# Altium footprint library VQFN_RGV.PcbLib: 1 footprints
Each footprint in its own frame and in the unit in brackets; x right, y up, seen from the top. Pads: shape width x height; smd on the part's side, far side on the other; paste and mask are expansions set on the pad; w line width, h text height; cw(c..) or ccw(c..) is an arc to the next point about the centre after c.
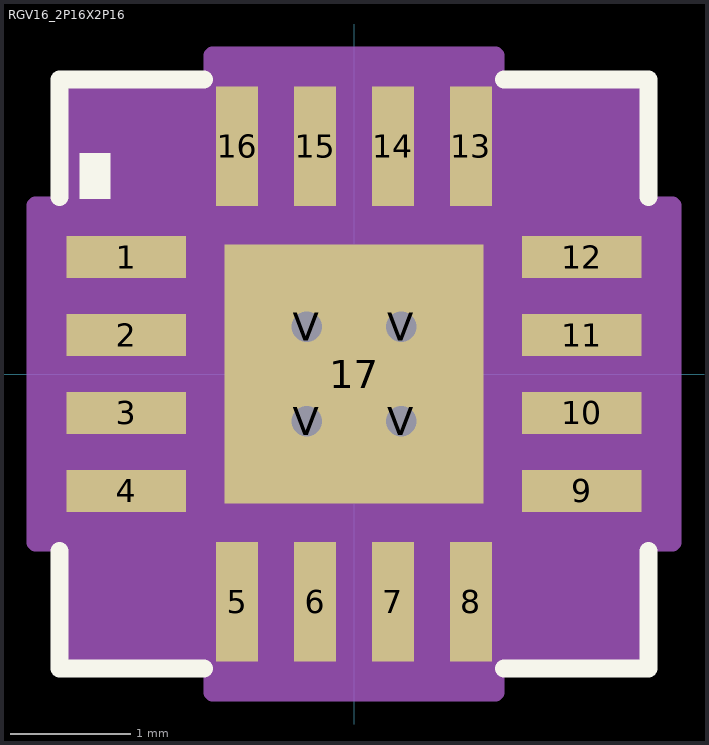
[diagram p0: the footprint, top view; thin cyan lines are the x and y axes]

## RGV16_2P16X2P16 [mm]
pads (21):
  rect 1x0.35 smd paste-0.175 mask+0: 1(-1.9,0.975) 2(-1.9,0.325) 3(-1.9,-0.325) 4(-1.9,-0.975) 9(1.9,-0.975) 10(1.9,-0.325) 11(1.9,0.325) 12(1.9,0.975)
  rect 0.35x1 smd paste-0.175 mask+0: 5(-0.975,-1.9) 6(-0.325,-1.9) 7(0.325,-1.9) 8(0.975,-1.9) 13(0.975,1.9) 14(0.325,1.9) 15(-0.325,1.9) 16(-0.975,1.9)
  rect 2.16x2.16 smd paste-1.067 mask-1.067: 17(0,0)
  round 0.508 hole 0.254: V(-0.394,-0.394) V(-0.394,0.394) V(0.394,-0.394) V(0.394,0.394)
Top Overlay:
  region: -2.286,1.841 -2.032,1.841 -2.032,1.46 -2.286,1.46
  lines w0.152: -2.456,-1.478 -2.456,-2.456 -1.253,-2.456 ; -2.456,1.478 -2.456,2.456 -1.253,2.456 ; 1.253,-2.456 2.456,-2.456 2.456,-1.478 ; 1.253,2.456 2.456,2.456 2.456,1.478
Top Paste:
  drawing of 26 lines, arcs and shapes, not listed
Top Solder:
  region: -1.33,1.22 -2.47,1.22 -2.47,0.73 -1.33,0.73
  region: -1.33,0.57 -2.47,0.57 -2.47,0.08 -1.33,0.08
  region: -1.33,-0.08 -2.47,-0.08 -2.47,-0.57 -1.33,-0.57
  region: -1.33,-0.73 -2.47,-0.73 -2.47,-1.22 -1.33,-1.22
  region: 2.47,-0.73 1.33,-0.73 1.33,-1.22 2.47,-1.22
  region: 2.47,-0.08 1.33,-0.08 1.33,-0.57 2.47,-0.57
  region: 2.47,0.57 1.33,0.57 1.33,0.08 2.47,0.08
  region: 2.47,1.22 1.33,1.22 1.33,0.73 2.47,0.73
  region: 1.22,2.47 0.73,2.47 0.73,1.33 1.22,1.33
  region: 0.57,2.47 0.08,2.47 0.08,1.33 0.57,1.33
  region: -0.08,2.47 -0.57,2.47 -0.57,1.33 -0.08,1.33
  region: -0.73,2.47 -1.22,2.47 -1.22,1.33 -0.73,1.33
  region: -1.144,0.594 -1.144,1.144 1.144,1.144 1.144,0.594
  region: -1.144,-0.194 -1.144,0.194 1.144,0.194 1.144,-0.194
  region: -1.144,-1.144 -1.144,-0.594 1.144,-0.594 1.144,-1.144
  region: -1.144,-1.144 -1.144,1.144 -0.594,1.144 -0.594,-1.144
  region: 0.194,-1.144 0.194,1.144 -0.194,1.144 -0.194,-1.144
  region: 0.594,-1.144 0.594,1.144 1.144,1.144 1.144,-1.144
  region: -0.73,-1.33 -1.22,-1.33 -1.22,-2.47 -0.73,-2.47
  region: 1.22,-1.33 0.73,-1.33 0.73,-2.47 1.22,-2.47
  region: -0.08,-1.33 -0.57,-1.33 -0.57,-2.47 -0.08,-2.47
  region: 0.57,-1.33 0.08,-1.33 0.08,-2.47 0.57,-2.47
Mechanical 13:
  lines w0.025: -2.075,0.805 -0.805,2.075 ; -2.075,-2.075 2.075,-2.075 2.075,2.075 -2.075,2.075 -2.075,-2.075
  text "*" at -1.463,0.665 h1.27
Mechanical 15:
  region: -1.179,-2.329 -2.329,-2.329 -2.329,-1.404 -2.654,-1.404 -2.654,1.404 -2.329,1.404 -2.329,2.329 -1.179,2.329 -1.179,2.654 1.179,2.654 1.179,2.329 2.329,2.329 2.329,1.404 2.654,1.404 2.654,-1.404 2.329,-1.404 2.329,-2.329 1.179,-2.329 1.179,-2.654 -1.179,-2.654
  lines w0.152: -2.654,-1.404 -2.329,-1.404 -2.329,-2.329 -1.179,-2.329 -1.179,-2.654 1.179,-2.654 1.179,-2.329 2.329,-2.329 2.329,-1.404 2.654,-1.404 2.654,1.404 2.329,1.404 2.329,2.329 1.179,2.329 1.179,2.654 -1.179,2.654 -1.179,2.329 -2.329,2.329 -2.329,1.404 -2.654,1.404 -2.654,-1.404
3D body: height 0.25, standoff 0, extent 0,0 0.254,0.254
3D body "VQFN_RGV16.stp": height 1, standoff 0, extent -2,-2 2,2